# Altium schematic symbol library MPU-9250.SchLib: 1 symbol
Pins are listed as number, name and electrical type; pins without a type are passive.

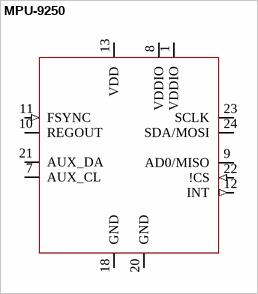
[diagram p0: symbol MPU-9250]

## MPU-9250
designator U?  (value not drawn)
SMD Gyroscope/Accelerometer/Magnetometer Sensor; 9-AXIS; MF: InvenSense; Availability: Good; Price: 6.71 USD; MP: MPU-9250; Package: QFN-24 InvenSense; Value: *
footprint QFN-24/3MM
pins: 1 VDDIO (power), 7 AUX_CL (io), 8 VDDIO (power), 9 AD0/MISO (io), 10 REGOUT (io), 11 FSYNC (in), 12 INT (out), 13 VDD (power), 18 GND (power), 20 GND (power), 21 AUX_DA (io), 22 !CS (in), 23 SCLK (io), 24 SDA/MOSI (io)